# Altium footprint library resistor.PcbLib: 49 footprints (part 2 of 4)
Each footprint in its own frame and in the unit in brackets; x right, y up, seen from the top. Pads: shape width x height; smd on the part's side, far side on the other; paste and mask are expansions set on the pad; w line width, h text height; cw(c..) or ccw(c..) is an arc to the next point about the centre after c.
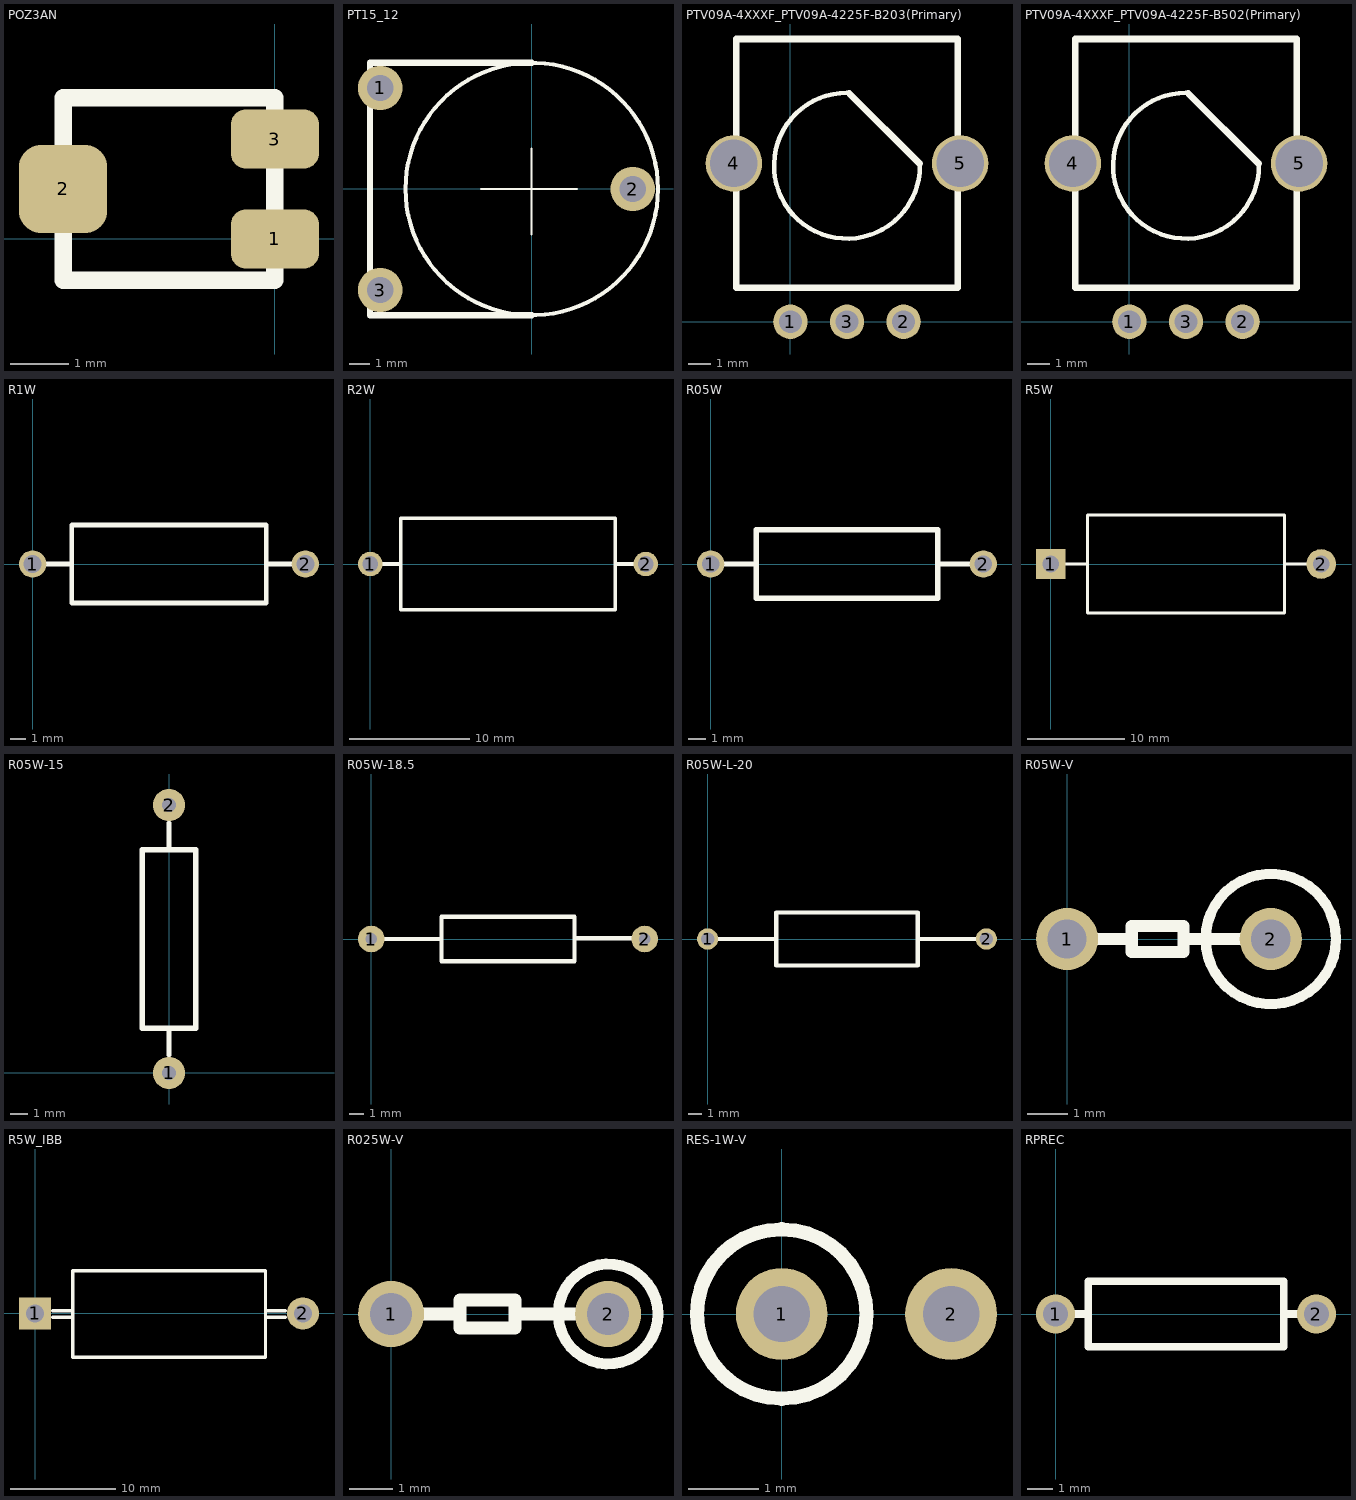
[diagram p1: the footprints below, top view; thin cyan lines are the x and y axes]

## POZ3AN [mm]
pads (3):
  rrect50% 1.5x1 smd: 1(0,0) 3(0,1.7)
  rrect50% 1.5x1.5 smd: 2(-3.6,0.85)
Top Overlay:
  lines w0.3: -3.6,-0.7 0,-0.7 0,2.4 -3.6,2.4 -3.6,-0.7

## PT15_12 [mm]
pads (3):
  round 2.2 hole 1.3: 1(-7.501,5) 2(4.999,0) 3(-7.501,-5)
Top Overlay:
  circle w0.2: c-0.001,0 r6.25
  lines w0.1: -2.501,0 2.249,0 ; -0.001,-2.25 -0.001,2
  lines w0.3: -0.001,-6.25 -8.001,-6.25 -8.001,6.25 -0.001,6.25
3D body "encoder_PT15.sldprt": height 6.8, standoff -4, extent -7.631,-7.596 7.873,7.404

## PTV09A-4XXXF_PTV09A-4225F-B203(Primary) [mm]
pads (5):
  round 1.524 hole 1: 1(0,0) 2(5,0) 3(2.5,0)
  round 2.5 hole 2.1: 4(-2.5,7) 5(7.5,7)
Top Overlay:
  lines w0.2: 2.5,10.125 ccw(c2.5,6.9) 5.725,6.9
  lines w0.3: 2.6,10.1 5.7,7 ; -2.4,1.5 7.4,1.5 7.4,12.5 -2.4,12.5 -2.4,1.5

## PTV09A-4XXXF_PTV09A-4225F-B502(Primary) [mm]
pads (5):
  round 1.524 hole 1: 1(0,0) 2(5,0) 3(2.5,0)
  round 2.5 hole 2.1: 4(-2.5,7) 5(7.5,7)
Top Overlay:
  lines w0.2: 2.5,10.125 ccw(c2.5,6.9) 5.725,6.9
  lines w0.3: 2.6,10.1 5.7,7 ; -2.4,1.5 7.4,1.5 7.4,12.5 -2.4,12.5 -2.4,1.5

## R1W [mil]
pads (2):
  round 70 hole 46: 1(0,0) 2(700,0)
Top Overlay:
  lines w11.81: 0,0 50,0 100,0 ; 600,0 700,0 ; 100,-100 100,100 600,100 600,-100 100,-100

## R2W [mil]
pads (2):
  round 80 hole 52: 1(0,0) 2(900,0)
Top Overlay:
  lines w11.81: 0,0 100,0 ; 500,150 100,150 ; 800,0 900,0 ; 100,150 800,150 800,-150 100,-150 100,150

## R05W [mil]
pads (2):
  round 60 hole 38: 1(0,0) 2(600,0)
Top Overlay:
  lines w11.81: 0,0 50,0 100,0 ; 500,0 600,0 ; 100,-75 500,-75 500,75 100,75 100,-75

## R5W [mil]
pads (2):
  rect 120x120 hole 68: 1(0,0)
  round 120 hole 68: 2(1100,0)
Top Overlay:
  lines w11.81: 0,0 150,0 ; 950,0 1100,0 ; 150,-200 150,200 950,200 950,-200 150,-200

## R05W-15 [mm]
pads (2):
  round 1.8 hole 0.8: 1(0,0) 2(0,15)
Top Overlay:
  lines w0.3: 0,1 0,2.5 ; 0,12.5 0,14 ; -1.5,2.5 1.5,2.5 1.5,12.5 -1.5,12.5 -1.5,2.5
3D body "С1-4 330 Ом (расстояние между выводами 15 мм).SLDPRT": height 4.1, standoff -1.5, extent -1.6,-0.281 1.6,15.318

## R05W-18.5 [mm]
pads (2):
  round 1.8 hole 0.8: 1(0,0) 2(18.5,0)
Top Overlay:
  lines w0.3: 0,0 4.75,0 ; 13.75,0.05 18.5,0.05 ; 4.75,-1.5 13.75,-1.5 13.75,1.5 4.75,1.5 4.75,-1.5

## R05W-L-20 [mil]
pads (2):
  round 60 hole 38: 1(0,0) 2(787.4,0)
Top Overlay:
  lines w11.81: 0,0 143.7,0 193.7,0 ; 593.7,0 787.4,0 ; 193.7,-75 593.7,-75 593.7,75 193.7,75 193.7,-75

## R05W-V [mil]
pads (2):
  round 60 hole 38: 1(0,0) 2(196.85,0)
Top Overlay:
  circle w10: c196.85,0 r62.99
  lines w11.81: 0,0 62.5,0 ; 112.5,0 187.5,0 200,0 ; 62.5,-12.5 62.5,12.5 112.5,12.5 112.5,-12.5 62.5,-12.5

## R5W_IBB [mil]
pads (2):
  rect 120x120 hole 68: 1(0,0)
  round 120 hole 68: 2(1000,0)
Top Overlay:
  lines w11.81: 66.14,-14.57 140.55,-14.57 ; 66.14,10.24 140.55,10.24 ; 859.84,-14.57 934.25,-14.57 ; 859.84,10.24 934.25,10.24 ; 140.55,-163.39 859.84,-163.39 859.84,159.06 140.55,159.06 140.55,-163.39

## R025W-V [mil]
pads (2):
  round 60 hole 38: 1(0,0) 2(196.85,0)
Top Overlay:
  circle w10: c196.85,0 r45.28
  lines w11.81: 0,0 62.5,0 ; 112.5,0 187.5,0 200,0 ; 62.5,-12.5 62.5,12.5 112.5,12.5 112.5,-12.5 62.5,-12.5

## RES-1W-V [mm]
pads (2):
  round 1.3 hole 0.8: 1(0,0) 2(2.4,0)
Top Overlay:
  circle w0.2: c0,0 r1.2
3D body "Res2.4mm(1W).STEP": height 9.8, standoff -4.29, extent -1.15,-1.2 2.75,1.2

## RPREC [mil]
pads (2):
  round 60 hole 38: 1(0,0) 2(400,0)
Top Overlay:
  lines w11.81: 0,0 50,0 ; 350,0 400,0 ; 50,0 50,-50 350,-50 350,50 50,50 50,0